# Altium schematic symbol library Jumper-SolderBridge.SchLib: 6 symbols
Pins are listed as number, name and electrical type; pins without a type are passive.

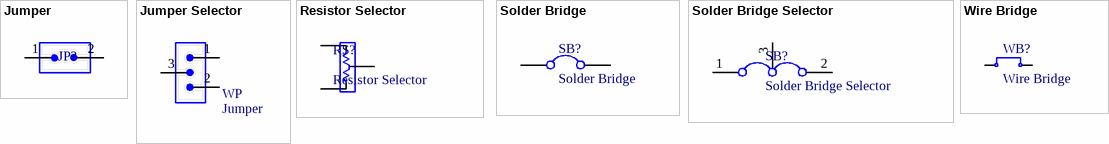
[diagram p0: symbols Jumper to Wire Bridge]

## Jumper
designator JP?  (value not drawn)
Company: E.P.I.L; Defualt State: Close; Design Date: 2011/11/02
footprint Jumper Close
footprint Jumper Open
pins: 1 IN, 2 IN

## Jumper Selector
designator WP, comment Jumper
Jumper Selector
footprint Jumper Selector
pins: 1 IN, 2 IN, 3 IN

## Resistor Selector
designator RS?
footprint RS 0201
footprint RS 0402
footprint RS 0603 (1/10Wï¿½ï¿½Æ¬ï¿½ï¿½ï¿½ï¿½)
footprint RS 0805
footprint RS 1206
footprint RS 1210
footprint RS 1812
footprint RS 2010
footprint RS 2512
pins: 1, 2, 3

## Solder Bridge
designator SB?
footprint Solder Bridge Shorted
footprint Solder Bridge Open
footprint Solder Bridge
pins: 1, 2

## Solder Bridge Selector
designator SB?
footprint Solder Bridge Selector
pins: 1, 2, 3

## Wire Bridge
designator WB?
Manganese Copper Insulated Sleeve Low Ohm Jumper Wire Resistor; Company: SJ Libraries; Designer: Eng. Saeid Jorablo; Category: Jumpers; ComponentLink1Description: Datasheet; ComponentLink2Description: Reference; HelpURL: http://s3.picofile.com/file/7443264187/Coming_Soon_logo.gif; Mounting Technology: Surface Mount\Through-Hole; Pin Count: 2; Publisher: SJ Unlimited; Status: Unreleased
footprint J0508-200 (5.08 mm (200mil) Jumper wire)
footprint J0762-300 (7.62 mm (300 mil) Jumper wire)
footprint J1016-400 (10.16 mm (400 mil) Jumper wire)
footprint J1270-500 (12.7 mm (500 mil) Jumper wire)
footprint J1524-600 (15.24 mm (600 mil) Jumper wire)
footprint J2032-800 (20.32 mm (800 mil) Jumper wire)
footprint J2540-1000 (25.4 mm (1000 mil) Jumper wire)
footprint J3048-1200 (30.48 mm (1200 mil) Jumper wire)
pins: 1, 2
4 alternate drawings of the same symbol